# Altium schematic symbol library SCH - MCU - STM32 - ST MICROELECTRONICS STM32F413V(G-H)TX LQFP100.SchLib: 1 symbol
Pins are listed as number, name and electrical type; pins without a type are passive.

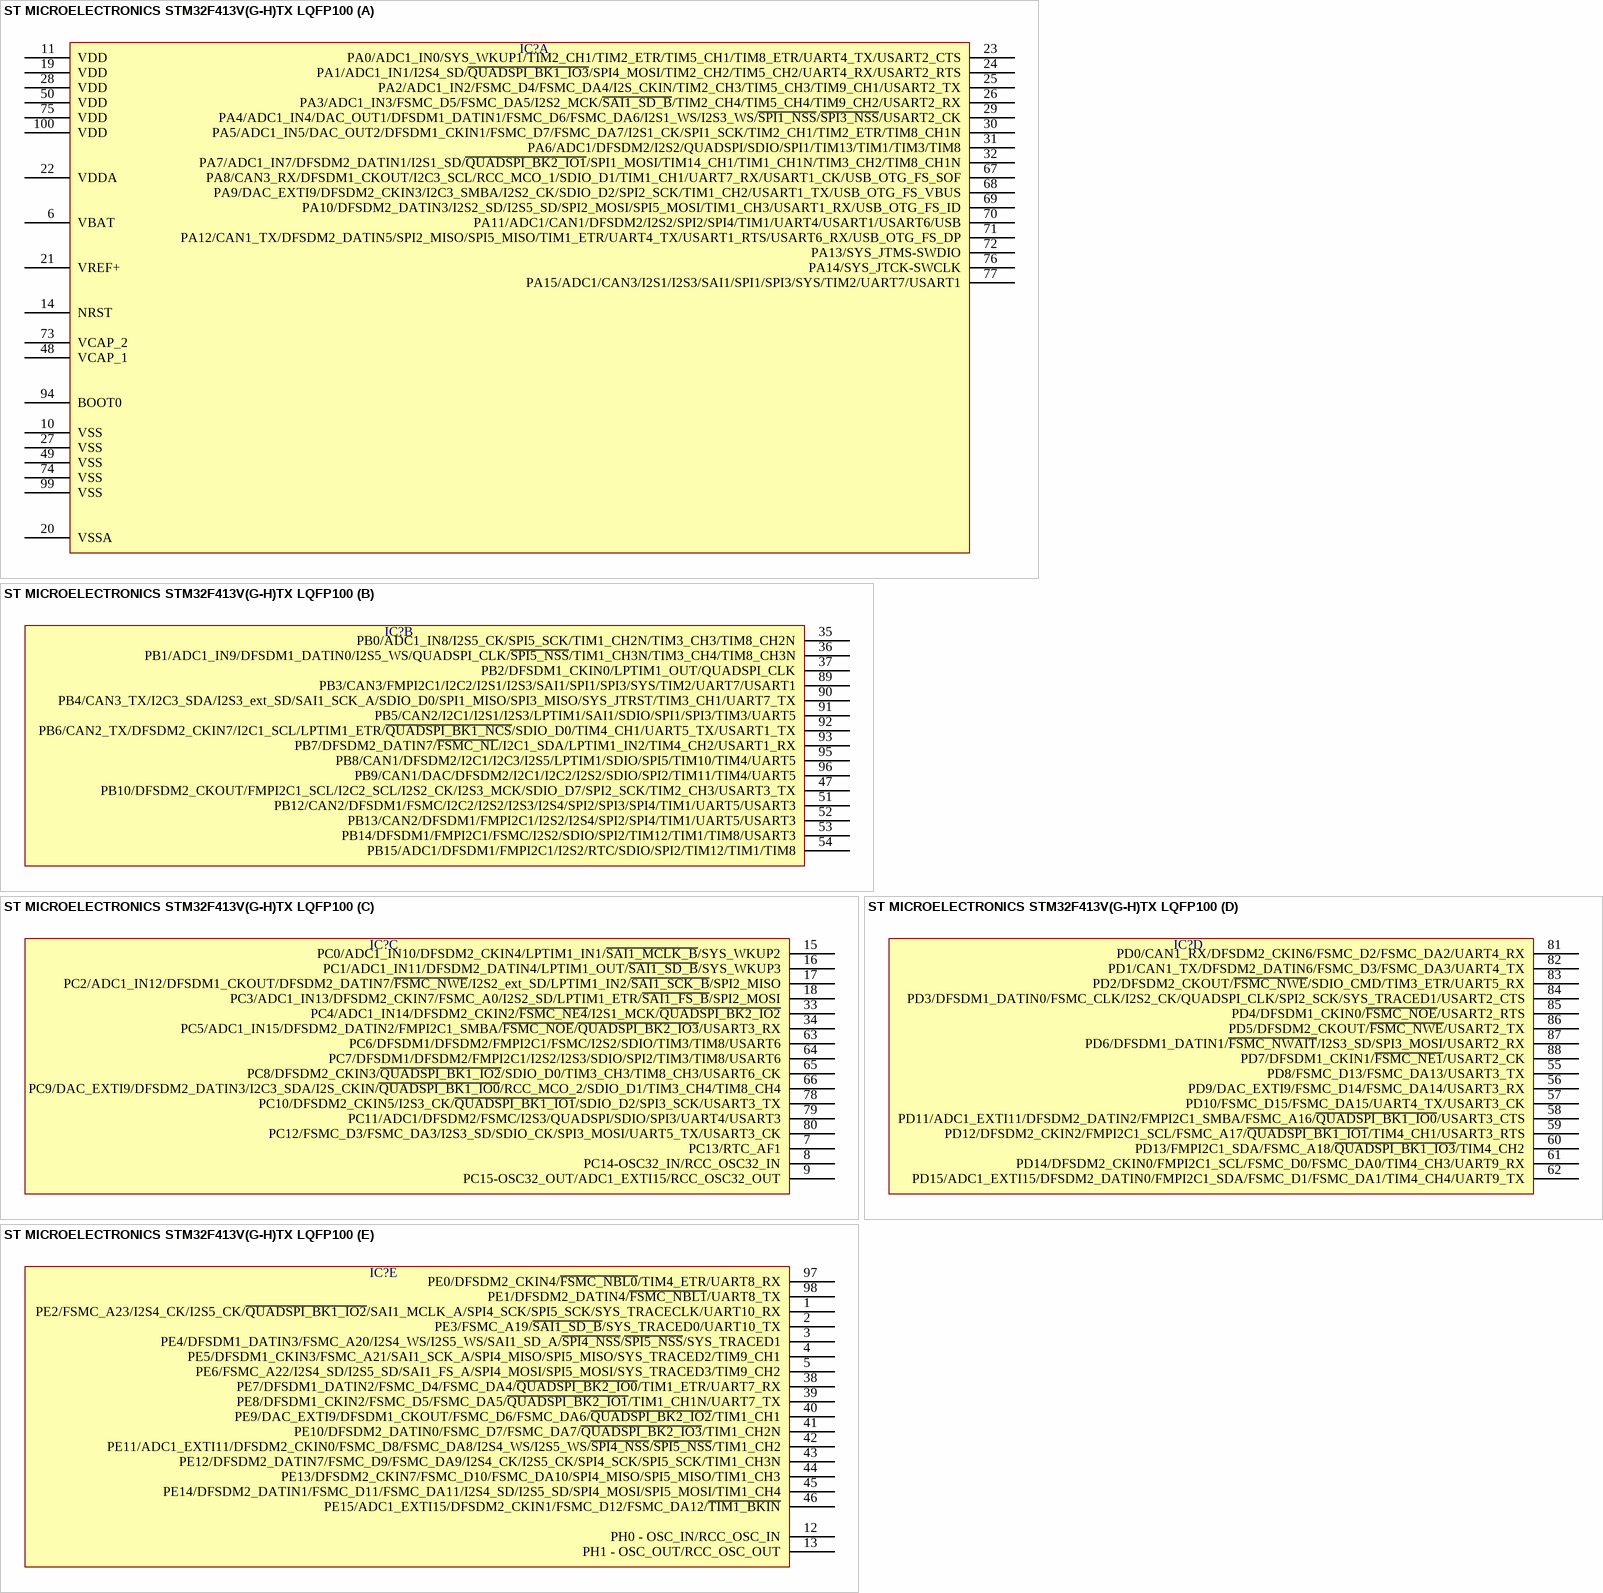
[diagram p0: symbol ST MICROELECTRONICS STM32F413V(G-H)TX LQFP100]

## ST MICROELECTRONICS STM32F413V(G-H)TX LQFP100
designator IC?  (value not drawn)
part A pins: 6 VBAT, 10 VSS, 11 VDD, 14 NRST, 19 VDD, 20 VSSA, 21 VREF+, 22 VDDA, 23 PA0/ADC1_IN0/SYS_WKUP1/TIM2_CH1/TIM2_ETR/TIM5_CH1/TIM8_ETR/UART4_TX/USART2_CTS, 24 PA1/ADC1_IN1/I2S4_SD/~{QUADSPI_BK1_IO3}/SPI4_MOSI/TIM2_CH2/TIM5_CH2/UART4_RX/USART2_RTS, 25 PA2/ADC1_IN2/FSMC_D4/FSMC_DA4/I2S_CKIN/TIM2_CH3/TIM5_CH3/TIM9_CH1/USART2_TX, 26 PA3/ADC1_IN3/FSMC_D5/FSMC_DA5/I2S2_MCK/~{SAI1_SD_B}/TIM2_CH4/TIM5_CH4/TIM9_CH2/USART2_RX, 27 VSS, 28 VDD, 29 PA4/ADC1_IN4/DAC_OUT1/DFSDM1_DATIN1/FSMC_D6/FSMC_DA6/I2S1_WS/I2S3_WS/~{SPI1_NSS}/~{SPI3_NSS}/USART2_CK, 30 PA5/ADC1_IN5/DAC_OUT2/DFSDM1_CKIN1/FSMC_D7/FSMC_DA7/I2S1_CK/SPI1_SCK/TIM2_CH1/TIM2_ETR/TIM8_CH1N, 31 PA6/ADC1/DFSDM2/I2S2/QUADSPI/SDIO/SPI1/TIM13/TIM1/TIM3/TIM8, 32 PA7/ADC1_IN7/DFSDM2_DATIN1/I2S1_SD/~{QUADSPI_BK2_IO1}/SPI1_MOSI/TIM14_CH1/TIM1_CH1N/TIM3_CH2/TIM8_CH1N, 48 VCAP_1, 49 VSS, 50 VDD, 67 PA8/CAN3_RX/DFSDM1_CKOUT/I2C3_SCL/RCC_MCO_1/SDIO_D1/TIM1_CH1/UART7_RX/USART1_CK/USB_OTG_FS_SOF, 68 PA9/DAC_EXTI9/DFSDM2_CKIN3/I2C3_SMBA/I2S2_CK/SDIO_D2/SPI2_SCK/TIM1_CH2/USART1_TX/USB_OTG_FS_VBUS, 69 PA10/DFSDM2_DATIN3/I2S2_SD/I2S5_SD/SPI2_MOSI/SPI5_MOSI/TIM1_CH3/USART1_RX/USB_OTG_FS_ID, 70 PA11/ADC1/CAN1/DFSDM2/I2S2/SPI2/SPI4/TIM1/UART4/USART1/USART6/USB, 71 PA12/CAN1_TX/DFSDM2_DATIN5/SPI2_MISO/SPI5_MISO/TIM1_ETR/UART4_TX/USART1_RTS/USART6_RX/USB_OTG_FS_DP, 72 PA13/SYS_JTMS-SWDIO, 73 VCAP_2, 74 VSS, 75 VDD, 76 PA14/SYS_JTCK-SWCLK, 77 PA15/ADC1/CAN3/I2S1/I2S3/SAI1/SPI1/SPI3/SYS/TIM2/UART7/USART1, 94 BOOT0, 99 VSS, 100 VDD
part B pins: 35 PB0/ADC1_IN8/I2S5_CK/SPI5_SCK/TIM1_CH2N/TIM3_CH3/TIM8_CH2N, 36 PB1/ADC1_IN9/DFSDM1_DATIN0/I2S5_WS/QUADSPI_CLK/~{SPI5_NSS}/TIM1_CH3N/TIM3_CH4/TIM8_CH3N, 37 PB2/DFSDM1_CKIN0/LPTIM1_OUT/QUADSPI_CLK, 47 PB10/DFSDM2_CKOUT/FMPI2C1_SCL/I2C2_SCL/I2S2_CK/I2S3_MCK/SDIO_D7/SPI2_SCK/TIM2_CH3/USART3_TX, 51 PB12/CAN2/DFSDM1/FSMC/I2C2/I2S2/I2S3/I2S4/SPI2/SPI3/SPI4/TIM1/UART5/USART3, 52 PB13/CAN2/DFSDM1/FMPI2C1/I2S2/I2S4/SPI2/SPI4/TIM1/UART5/USART3, 53 PB14/DFSDM1/FMPI2C1/FSMC/I2S2/SDIO/SPI2/TIM12/TIM1/TIM8/USART3, 54 PB15/ADC1/DFSDM1/FMPI2C1/I2S2/RTC/SDIO/SPI2/TIM12/TIM1/TIM8, 89 PB3/CAN3/FMPI2C1/I2C2/I2S1/I2S3/SAI1/SPI1/SPI3/SYS/TIM2/UART7/USART1, 90 PB4/CAN3_TX/I2C3_SDA/I2S3_ext_SD/SAI1_SCK_A/SDIO_D0/SPI1_MISO/SPI3_MISO/SYS_JTRST/TIM3_CH1/UART7_TX, 91 PB5/CAN2/I2C1/I2S1/I2S3/LPTIM1/SAI1/SDIO/SPI1/SPI3/TIM3/UART5, 92 PB6/CAN2_TX/DFSDM2_CKIN7/I2C1_SCL/LPTIM1_ETR/~{QUADSPI_BK1_NCS}/SDIO_D0/TIM4_CH1/UART5_TX/USART1_TX, 93 PB7/DFSDM2_DATIN7/~{FSMC_NL}/I2C1_SDA/LPTIM1_IN2/TIM4_CH2/USART1_RX, 95 PB8/CAN1/DFSDM2/I2C1/I2C3/I2S5/LPTIM1/SDIO/SPI5/TIM10/TIM4/UART5, 96 PB9/CAN1/DAC/DFSDM2/I2C1/I2C2/I2S2/SDIO/SPI2/TIM11/TIM4/UART5
part C pins: 7 PC13/RTC_AF1, 8 PC14-OSC32_IN/RCC_OSC32_IN, 9 PC15-OSC32_OUT/ADC1_EXTI15/RCC_OSC32_OUT, 15 PC0/ADC1_IN10/DFSDM2_CKIN4/LPTIM1_IN1/~{SAI1_MCLK_B}/SYS_WKUP2, 16 PC1/ADC1_IN11/DFSDM2_DATIN4/LPTIM1_OUT/~{SAI1_SD_B}/SYS_WKUP3, 17 PC2/ADC1_IN12/DFSDM1_CKOUT/DFSDM2_DATIN7/~{FSMC_NWE}/I2S2_ext_SD/LPTIM1_IN2/~{SAI1_SCK_B}/SPI2_MISO, 18 PC3/ADC1_IN13/DFSDM2_CKIN7/FSMC_A0/I2S2_SD/LPTIM1_ETR/~{SAI1_FS_B}/SPI2_MOSI, 33 PC4/ADC1_IN14/DFSDM2_CKIN2/~{FSMC_NE4}/I2S1_MCK/~{QUADSPI_BK2_IO2}, 34 PC5/ADC1_IN15/DFSDM2_DATIN2/FMPI2C1_SMBA/~{FSMC_NOE}/~{QUADSPI_BK2_IO3}/USART3_RX, 63 PC6/DFSDM1/DFSDM2/FMPI2C1/FSMC/I2S2/SDIO/TIM3/TIM8/USART6, 64 PC7/DFSDM1/DFSDM2/FMPI2C1/I2S2/I2S3/SDIO/SPI2/TIM3/TIM8/USART6, 65 PC8/DFSDM2_CKIN3/~{QUADSPI_BK1_IO2}/SDIO_D0/TIM3_CH3/TIM8_CH3/USART6_CK, 66 PC9/DAC_EXTI9/DFSDM2_DATIN3/I2C3_SDA/I2S_CKIN/~{QUADSPI_BK1_IO0}/RCC_MCO_2/SDIO_D1/TIM3_CH4/TIM8_CH4, 78 PC10/DFSDM2_CKIN5/I2S3_CK/~{QUADSPI_BK1_IO1}/SDIO_D2/SPI3_SCK/USART3_TX, 79 PC11/ADC1/DFSDM2/FSMC/I2S3/QUADSPI/SDIO/SPI3/UART4/USART3, 80 PC12/FSMC_D3/FSMC_DA3/I2S3_SD/SDIO_CK/SPI3_MOSI/UART5_TX/USART3_CK
part D pins: 55 PD8/FSMC_D13/FSMC_DA13/USART3_TX, 56 PD9/DAC_EXTI9/FSMC_D14/FSMC_DA14/USART3_RX, 57 PD10/FSMC_D15/FSMC_DA15/UART4_TX/USART3_CK, 58 PD11/ADC1_EXTI11/DFSDM2_DATIN2/FMPI2C1_SMBA/FSMC_A16/~{QUADSPI_BK1_IO0}/USART3_CTS, 59 PD12/DFSDM2_CKIN2/FMPI2C1_SCL/FSMC_A17/~{QUADSPI_BK1_IO1}/TIM4_CH1/USART3_RTS, 60 PD13/FMPI2C1_SDA/FSMC_A18/~{QUADSPI_BK1_IO3}/TIM4_CH2, 61 PD14/DFSDM2_CKIN0/FMPI2C1_SCL/FSMC_D0/FSMC_DA0/TIM4_CH3/UART9_RX, 62 PD15/ADC1_EXTI15/DFSDM2_DATIN0/FMPI2C1_SDA/FSMC_D1/FSMC_DA1/TIM4_CH4/UART9_TX, 81 PD0/CAN1_RX/DFSDM2_CKIN6/FSMC_D2/FSMC_DA2/UART4_RX, 82 PD1/CAN1_TX/DFSDM2_DATIN6/FSMC_D3/FSMC_DA3/UART4_TX, 83 PD2/DFSDM2_CKOUT/~{FSMC_NWE}/SDIO_CMD/TIM3_ETR/UART5_RX, 84 PD3/DFSDM1_DATIN0/FSMC_CLK/I2S2_CK/QUADSPI_CLK/SPI2_SCK/SYS_TRACED1/USART2_CTS, 85 PD4/DFSDM1_CKIN0/~{FSMC_NOE}/USART2_RTS, 86 PD5/DFSDM2_CKOUT/~{FSMC_NWE}/USART2_TX, 87 PD6/DFSDM1_DATIN1/~{FSMC_NWAIT}/I2S3_SD/SPI3_MOSI/USART2_RX, 88 PD7/DFSDM1_CKIN1/~{FSMC_NE1}/USART2_CK
part E pins: 1 PE2/FSMC_A23/I2S4_CK/I2S5_CK/~{QUADSPI_BK1_IO2}/SAI1_MCLK_A/SPI4_SCK/SPI5_SCK/SYS_TRACECLK/UART10_RX, 2 PE3/FSMC_A19/~{SAI1_SD_B}/SYS_TRACED0/UART10_TX, 3 PE4/DFSDM1_DATIN3/FSMC_A20/I2S4_WS/I2S5_WS/SAI1_SD_A/~{SPI4_NSS}/~{SPI5_NSS}/SYS_TRACED1, 4 PE5/DFSDM1_CKIN3/FSMC_A21/SAI1_SCK_A/SPI4_MISO/SPI5_MISO/SYS_TRACED2/TIM9_CH1, 5 PE6/FSMC_A22/I2S4_SD/I2S5_SD/SAI1_FS_A/SPI4_MOSI/SPI5_MOSI/SYS_TRACED3/TIM9_CH2, 12 PH0 - OSC_IN/RCC_OSC_IN, 13 PH1 - OSC_OUT/RCC_OSC_OUT, 38 PE7/DFSDM1_DATIN2/FSMC_D4/FSMC_DA4/~{QUADSPI_BK2_IO0}/TIM1_ETR/UART7_RX, 39 PE8/DFSDM1_CKIN2/FSMC_D5/FSMC_DA5/~{QUADSPI_BK2_IO1}/TIM1_CH1N/UART7_TX, 40 PE9/DAC_EXTI9/DFSDM1_CKOUT/FSMC_D6/FSMC_DA6/~{QUADSPI_BK2_IO2}/TIM1_CH1, 41 PE10/DFSDM2_DATIN0/FSMC_D7/FSMC_DA7/~{QUADSPI_BK2_IO3}/TIM1_CH2N, 42 PE11/ADC1_EXTI11/DFSDM2_CKIN0/FSMC_D8/FSMC_DA8/I2S4_WS/I2S5_WS/~{SPI4_NSS}/~{SPI5_NSS}/TIM1_CH2, 43 PE12/DFSDM2_DATIN7/FSMC_D9/FSMC_DA9/I2S4_CK/I2S5_CK/SPI4_SCK/SPI5_SCK/TIM1_CH3N, 44 PE13/DFSDM2_CKIN7/FSMC_D10/FSMC_DA10/SPI4_MISO/SPI5_MISO/TIM1_CH3, 45 PE14/DFSDM2_DATIN1/FSMC_D11/FSMC_DA11/I2S4_SD/I2S5_SD/SPI4_MOSI/SPI5_MOSI/TIM1_CH4, 46 PE15/ADC1_EXTI15/DFSDM2_CKIN1/FSMC_D12/FSMC_DA12/~{TIM1_BKIN}, 97 PE0/DFSDM2_CKIN4/~{FSMC_NBL0}/TIM4_ETR/UART8_RX, 98 PE1/DFSDM2_DATIN4/~{FSMC_NBL1}/UART8_TX